# Altium footprint library adafruit.PCBLIB: 643 footprints (part 5 of 41)
Each footprint in its own frame and in the unit in brackets; x right, y up, seen from the top. Pads: shape width x height; smd on the part's side, far side on the other; paste and mask are expansions set on the pad; w line width, h text height; cw(c..) or ccw(c..) is an arc to the next point about the centre after c.
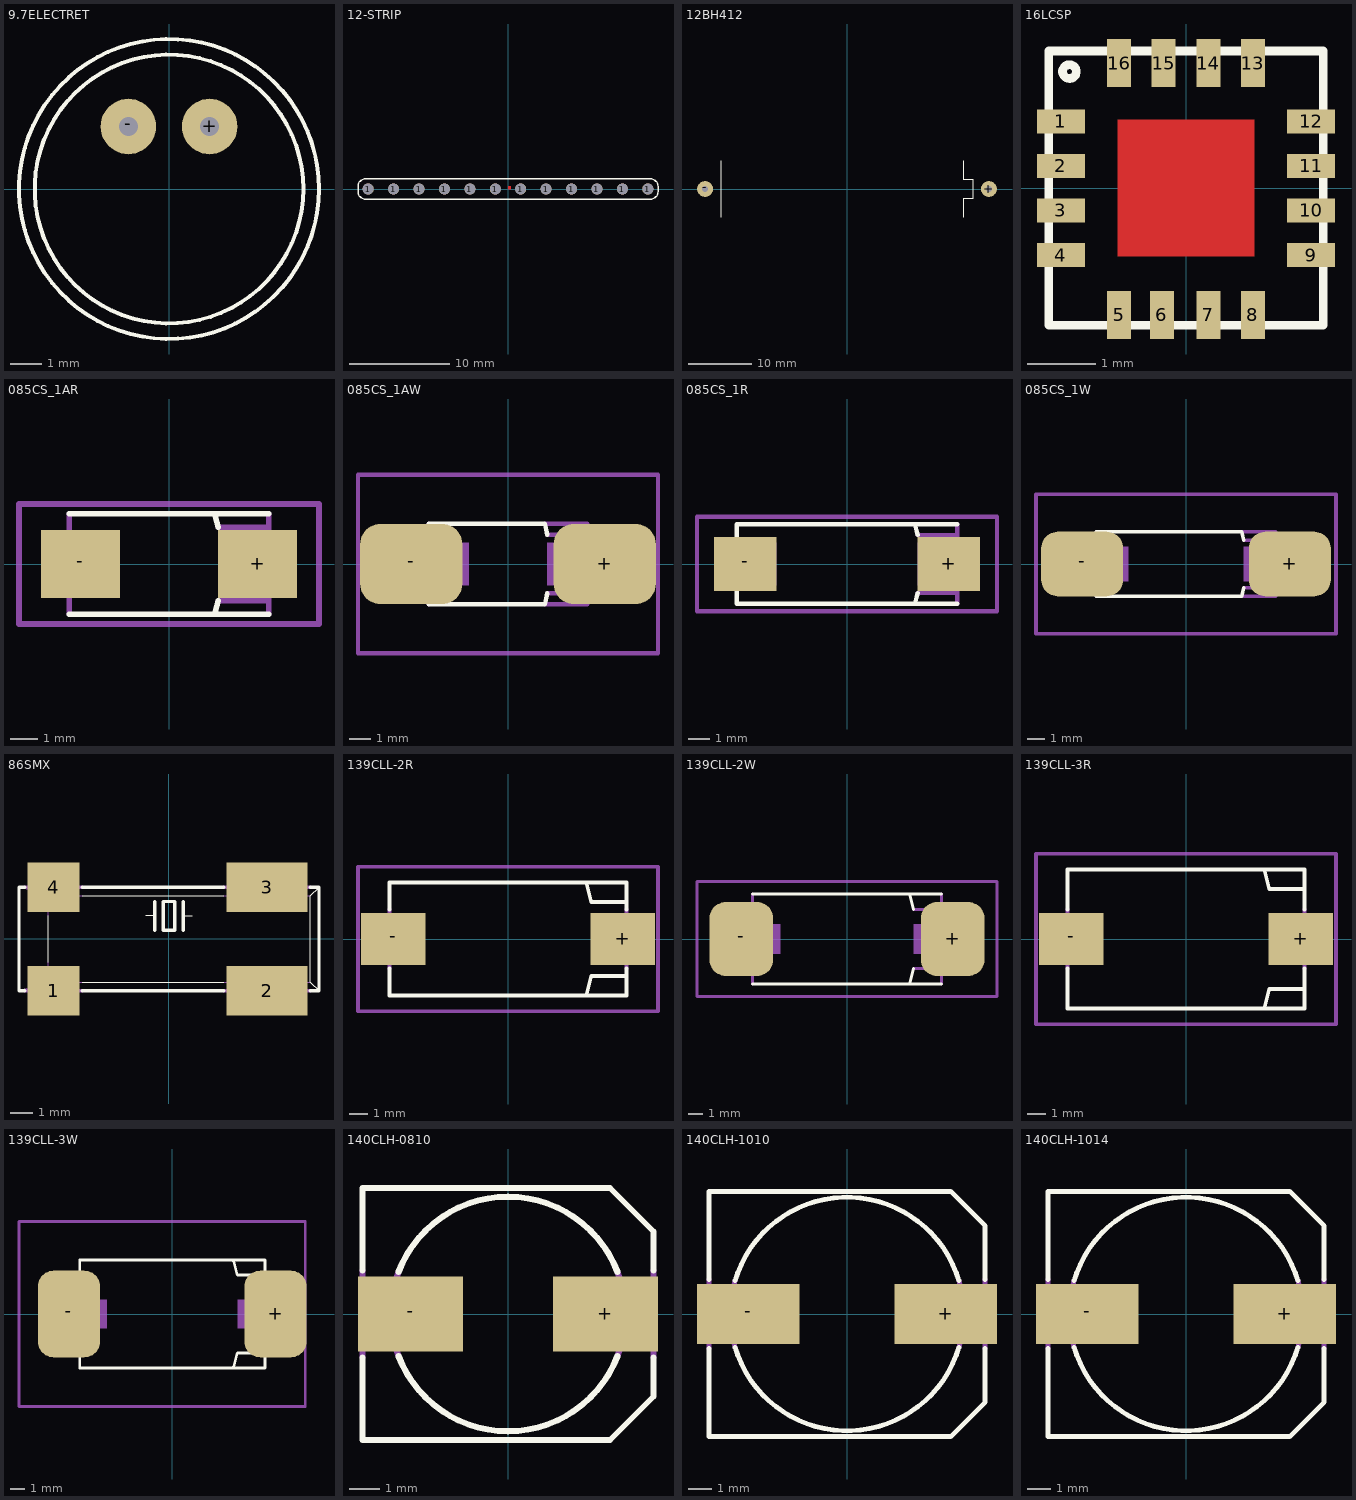
[diagram p4: the footprints below, top view; thin cyan lines are the x and y axes]

## 9.7ELECTRET [mil]
pads (2):
  round 70 hole 23.62: +(51.18,78.74) -(-51.18,78.74)
Top Overlay:
  circle w5: c0,0 r189.02
  circle w5: c0,0 r169.29

## 12-STRIP [mil]
pads (12):
  round 43.31 hole 43.31: 1(-550,0) 1(-450,0) 1(-350,0) 1(-250,0) 1(-150,0) 1(-50,0) 1(50,0) 1(150,0) 1(250,0) 1(350,0) 1(450,0) 1(550,0)
Top Layer:
  region: 0,0 10,0 10,10 0,10
Bottom Layer:
  region: 0,0 10,0 10,10 0,10
Top Overlay:
  lines w5: -590,-10 ccw(c-560,-10) -560,-40 560,-40 ccw(c560,-10) 590,-10 590,10 ccw(c560,10) 560,40 -560,40 ccw(c-560,10) -590,10 -590,-10
Top Solder:
  region: 0,0 10,0 10,10 0,10
Bottom Solder:
  region: 0,0 10,0 10,10 0,10

## 12BH412 [mm]
pads (2):
  round 2.54 hole 1: +(22.5,0) -(-22.5,0)
Top Overlay:
  lines w0.127: -20,-4.5 -20,4.5 ; 18.5,-4.5 18.5,-1.5 20,-1.5 20,1.5 18.5,1.5 18.5,4.5

## 16LCSP [mm]
pads (16):
  rect 0.7x0.35 smd: 1(-1.825,0.975) 2(-1.825,0.325) 3(-1.825,-0.325) 4(-1.825,-0.975) 9(1.825,-0.975) 10(1.825,-0.325) 11(1.825,0.325) 12(1.825,0.975)
  rect 0.35x0.7 smd: 5(-0.975,-1.85) 6(-0.35,-1.85) 7(0.325,-1.85) 8(0.975,-1.85) 13(0.975,1.825) 14(0.325,1.825) 15(-0.325,1.825) 16(-0.975,1.825)
Top Layer:
  rectangle: -1,-1 1,1
Top Overlay:
  circle w0.127: c-1.7,1.7 r0.1
  lines w0.127: -2,-2 2,-2 2,2 -2,2 -2,-2
Top Paste:
  rectangle: -1,-1 -0.3,-0.3
  rectangle: -1,0.3 -0.3,1
  rectangle: 0.3,0.3 1,1
  rectangle: 0.3,-1 1,-0.3
Top Solder:
  rectangle: -1,-1 1,1

## 085CS_1AR [mil]
pads (2):
  rect 114.17x98.43 smd: +(127.95,0) -(-127.95,0)
Top Overlay:
  lines w8: -143.7,-72.83 143.7,-72.83 ; -143.7,72.83 143.7,72.83 ; 66.93,-68.9 70.87,-53.15 ; 66.93,68.9 70.87,53.15
Mechanical 16:
  rectangle: 70.87,-39.37 163.39,39.37
  rectangle: -163.39,-39.37 -70.87,39.37
  lines w4: -175.2,-27.56 -175.2,27.56 -165.35,37.4 -165.35,-37.4 -175.2,-27.56 ; 165.35,-37.4 175.2,-27.56 175.2,27.56 165.35,37.4 165.35,-37.4
  lines w8: -169.29,-29.53 -169.29,29.53 ; -143.7,-72.83 -143.7,72.83 ; 70.87,-53.15 141.73,-53.15 ; 70.87,53.15 139.76,53.15 ; 143.7,-72.83 143.7,72.83 ; 169.29,-29.53 169.29,29.53
Mechanical 27:
  lines w8: -216.54,-86.61 -216.54,86.61 216.54,86.61 216.54,-86.61 -216.54,-86.61

## 085CS_1AW [mm]
pads (2):
  rrect50% 4.7x3.7 smd: +(4.45,0) -(-4.45,0)
Top Overlay:
  lines w0.203: -3.65,-1.85 1.7,-1.85 1.8,-1.35 ; -3.65,1.85 1.7,1.85 1.8,1.35
Mechanical 16:
  rectangle: 1.8,-1 4.15,1
  rectangle: -4.15,-1 -1.8,1
  lines w0.102: -4.45,-0.7 -4.45,0.7 -4.2,0.95 -4.2,-0.95 -4.45,-0.7 ; 4.2,-0.95 4.45,-0.7 4.45,0.7 4.2,0.95 4.2,-0.95
  lines w0.203: -4.3,-0.75 -4.3,0.75 ; -3.65,-1.85 -3.65,1.85 ; 1.7,-1.85 3.65,-1.85 3.65,1.85 1.7,1.85 ; 1.8,-1.35 3.6,-1.35 ; 1.8,1.35 3.55,1.35 ; 4.3,-0.75 4.3,0.75
Mechanical 27:
  lines w0.203: -6.9,-4.1 -6.9,4.1 6.9,4.1 6.9,-4.1 -6.9,-4.1

## 085CS_1R [mil]
pads (2):
  rect 114.17x98.43 smd: +(187.01,0) -(-187.01,0)
Top Overlay:
  lines w8: 125.98,-68.9 129.92,-53.15 ; 125.98,68.9 129.92,53.15 ; 202.76,-72.83 -202.76,-72.83 -202.76,72.83 202.76,72.83
Mechanical 16:
  rectangle: 129.92,-39.37 222.44,39.37
  rectangle: -222.44,-39.37 -129.92,39.37
  lines w4: -234.25,-27.56 -234.25,27.56 -224.41,37.4 -224.41,-37.4 -234.25,-27.56 ; 224.41,-37.4 234.25,-27.56 234.25,27.56 224.41,37.4 224.41,-37.4
  lines w8: -228.35,-29.53 -228.35,29.53 ; 129.92,-53.15 200.79,-53.15 ; 129.92,53.15 198.82,53.15 ; 202.76,-72.83 202.76,72.83 ; 228.35,-29.53 228.35,29.53
Mechanical 27:
  lines w8: -275.59,-86.61 -275.59,86.61 275.59,86.61 275.59,-86.61 -275.59,-86.61

## 085CS_1W [mm]
pads (2):
  rrect50% 4.7x3.7 smd: +(5.95,0) -(-5.95,0)
Top Overlay:
  lines w0.203: -5.15,-1.85 3.2,-1.85 3.3,-1.35 ; -5.15,1.85 3.2,1.85 3.3,1.35
Mechanical 16:
  rectangle: 3.3,-1 5.65,1
  rectangle: -5.65,-1 -3.3,1
  lines w0.102: -5.95,-0.7 -5.95,0.7 -5.7,0.95 -5.7,-0.95 -5.95,-0.7 ; 5.7,-0.95 5.95,-0.7 5.95,0.7 5.7,0.95 5.7,-0.95
  lines w0.203: -5.8,-0.75 -5.8,0.75 ; -5.15,-1.85 -5.15,1.85 ; 3.2,-1.85 5.15,-1.85 5.15,1.85 3.2,1.85 ; 3.3,-1.35 5.1,-1.35 ; 3.3,1.35 5.05,1.35 ; 5.8,-0.75 5.8,0.75
Mechanical 27:
  lines w0.203: -8.6,-4 -8.6,4 8.6,4 8.6,-4 -8.6,-4

## 86SMX [mil]
pads (4):
  rect 90x86 smd: 1(-200,-90) 4(-200,90)
  rect 140x86 smd: 2(170,-90) 3(170,90)
Top Overlay:
  lines w2: -260,-90 -250,-87 ; -260,90 -250,87 ; -210,-40 -210,40 ; -150,-75 95,-75 ; -150,75 95,75 ; -40,40 -25,40 ; 25,40 40,40 ; 260,-90 245,-75 245,75 260,90
  lines w6: -250,-90 -260,-90 -260,90 -250,90 ; -150,-90 95,-90 ; -150,90 95,90 ; -25,15 -25,40 -25,65 ; 25,15 25,40 25,65 ; 245,-90 260,-90 260,90 245,90 ; -10,15 -10,65 10,65 10,15 -10,15
Mechanical 16:
  lines w2: -250,-87 -210,-75 ; -250,87 -210,75 ; -210,-40 -210,-75 ; -210,40 -210,75 ; -150,-75 -210,-75 ; -150,75 -210,75 ; 95,-75 245,-75 ; 95,75 245,75
  lines w6: -250,-90 -235,-90 ; -250,90 -235,90 ; -150,-90 -165,-90 ; -150,90 -165,90 ; 95,-90 245,-90 ; 95,90 245,90 ; 110,-90 110,-100 230,-100 230,-90 ; 110,90 110,100 230,100 230,90 ; -235,-90 -165,-90 ; -235,-90 -235,-100 -165,-100 -165,-90 ; -235,90 -165,90 ; -235,90 -235,100 -165,100 -165,90

## 139CLL-2R [mil]
pads (2):
  rect 137.8x110.24 smd: +(244.09,0) -(-244.09,0)
Top Overlay:
  lines w8: -251.97,-62.99 -251.97,-120.08 251.97,-120.08 251.97,-62.99 ; -251.97,62.99 -251.97,120.08 251.97,120.08 251.97,62.99 ; 167.32,-116.14 177.17,-78.74 250,-78.74 ; 167.32,116.14 177.17,78.74 250,78.74
Mechanical 16:
  rectangle: 177.17,-39.37 269.69,39.37
  rectangle: -269.69,-39.37 -177.17,39.37
  lines w8: -251.97,-62.99 -251.97,62.99 ; 251.97,-62.99 251.97,62.99
  lines w10: -281.5,-23.62 -271.65,-33.46 -271.65,33.46 -281.5,23.62 -281.5,-23.62 ; 271.65,-33.46 281.5,-23.62 281.5,23.62 271.65,33.46 271.65,-33.46
Mechanical 27:
  lines w8: -318.9,-153.54 -318.9,153.54 318.9,153.54 318.9,-153.54 -318.9,-153.54

## 139CLL-2W [mil]
pads (2):
  rrect50% 169.29x196.85 smd: +(281.5,0) -(-281.5,0)
Top Overlay:
  lines w8: -251.97,-120.08 251.97,-120.08 ; -251.97,120.08 251.97,120.08 ; 167.32,-116.14 177.17,-78.74 ; 167.32,116.14 177.17,78.74
Mechanical 16:
  rectangle: 177.17,-39.37 269.69,39.37
  rectangle: -269.69,-39.37 -177.17,39.37
  lines w8: -251.97,-120.08 -251.97,120.08 ; 177.17,-78.74 250,-78.74 ; 177.17,78.74 250,78.74 ; 251.97,-120.08 251.97,120.08
  lines w10: -281.5,-23.62 -271.65,-33.46 -271.65,33.46 -281.5,23.62 -281.5,-23.62 ; 271.65,-33.46 281.5,-23.62 281.5,23.62 271.65,33.46 271.65,-33.46
Mechanical 27:
  lines w8: -399.61,-153.54 -399.61,153.54 399.61,153.54 399.61,-153.54 -399.61,-153.54

## 139CLL-3R [mil]
pads (2):
  rect 137.8x110.24 smd: +(244.09,0) -(-244.09,0)
Top Overlay:
  lines w8: -251.97,-62.99 -251.97,-147.64 251.97,-147.64 251.97,-62.99 ; -251.97,62.99 -251.97,147.64 251.97,147.64 251.97,62.99 ; 167.32,-143.7 177.17,-106.3 250,-106.3 ; 167.32,143.7 177.17,106.3 250,106.3
Mechanical 16:
  rectangle: 177.17,-39.37 269.69,39.37
  rectangle: -269.69,-39.37 -177.17,39.37
  lines w8: -251.97,-62.99 -251.97,62.99 ; 251.97,-62.99 251.97,62.99
  lines w10: -281.5,-23.62 -271.65,-33.46 -271.65,33.46 -281.5,23.62 -281.5,-23.62 ; 271.65,-33.46 281.5,-23.62 281.5,23.62 271.65,33.46 271.65,-33.46
Mechanical 27:
  lines w8: -318.9,-181.1 -318.9,181.1 318.9,181.1 318.9,-181.1 -318.9,-181.1

## 139CLL-3W [mil]
pads (2):
  rrect50% 169.29x236.22 smd: +(281.5,0) -(-281.5,0)
Top Overlay:
  lines w8: -251.97,-62.99 -251.97,-147.64 251.97,-147.64 251.97,-62.99 ; -251.97,62.99 -251.97,147.64 251.97,147.64 251.97,62.99 ; 167.32,-143.7 177.17,-106.3 250,-106.3 ; 167.32,143.7 177.17,106.3 250,106.3
Mechanical 16:
  rectangle: 177.17,-39.37 269.69,39.37
  rectangle: -269.69,-39.37 -177.17,39.37
  lines w8: -251.97,-62.99 -251.97,62.99 ; 251.97,-62.99 251.97,62.99
  lines w10: -281.5,-23.62 -271.65,-33.46 -271.65,33.46 -281.5,23.62 -281.5,-23.62 ; 271.65,-33.46 281.5,-23.62 281.5,23.62 271.65,33.46 271.65,-33.46
Mechanical 27:
  lines w8: -417.32,-251.97 -417.32,251.97 362.2,251.97 362.2,-251.97 -417.32,-251.97

## 140CLH-0810 [mil]
pads (2):
  rect 137.8x98.43 smd: +(127.95,0) -(-127.95,0)
Top Overlay:
  lines w8: -190.94,-57.09 -190.94,-165.35 133.86,-165.35 190.94,-108.27 190.94,-57.09 ; -190.94,57.09 -190.94,165.35 133.86,165.35 190.94,108.27 190.94,57.09 ; -143.7,-55.12 ccw(c0,0) 143.7,-55.12 ; -143.7,55.12 cw(c0,0) 143.7,55.12
Mechanical 16:
  lines w8: -190.94,-57.09 -190.94,57.09 ; -143.7,-55.12 cw(c0.01,0) -143.7,55.12 ; 143.7,-55.12 ccw(c-0.01,0) 143.7,55.12 ; 190.94,-57.09 190.94,57.09

## 140CLH-1010 [mil]
pads (2):
  rect 169.29x98.43 smd: +(163.39,0) -(-163.39,0)
Top Overlay:
  lines w8: -228.35,-57.09 -228.35,-202.76 171.26,-202.76 228.35,-145.67 228.35,-57.09 ; -228.35,57.09 -228.35,202.76 171.26,202.76 228.35,145.67 228.35,57.09 ; -185.04,-55.12 ccw(c0,0) 185.04,-55.12 ; -185.04,55.12 cw(c0,0) 185.04,55.12
Mechanical 16:
  lines w8: -228.35,-57.09 -228.35,57.09 ; -185.04,-55.12 cw(c0.01,0) -185.04,55.12 ; 185.04,-55.12 ccw(c-0.01,0) 185.04,55.12 ; 228.35,-57.09 228.35,57.09

## 140CLH-1014 [mil]
pads (2):
  rect 169.29x98.43 smd: +(163.39,0) -(-163.39,0)
Top Overlay:
  lines w8: -228.35,-57.09 -228.35,-202.76 171.26,-202.76 228.35,-145.67 228.35,-57.09 ; -228.35,57.09 -228.35,202.76 171.26,202.76 228.35,145.67 228.35,57.09 ; -185.04,-55.12 ccw(c0,0) 185.04,-55.12 ; -185.04,55.12 cw(c0,0) 185.04,55.12
Mechanical 16:
  lines w8: -228.35,-57.09 -228.35,57.09 ; -185.04,-55.12 cw(c0.01,0) -185.04,55.12 ; 185.04,-55.12 ccw(c-0.01,0) 185.04,55.12 ; 228.35,-57.09 228.35,57.09